# EAGLE library part LM5116 (library newchips)
NS Wide Range Synchronous Buck Controller
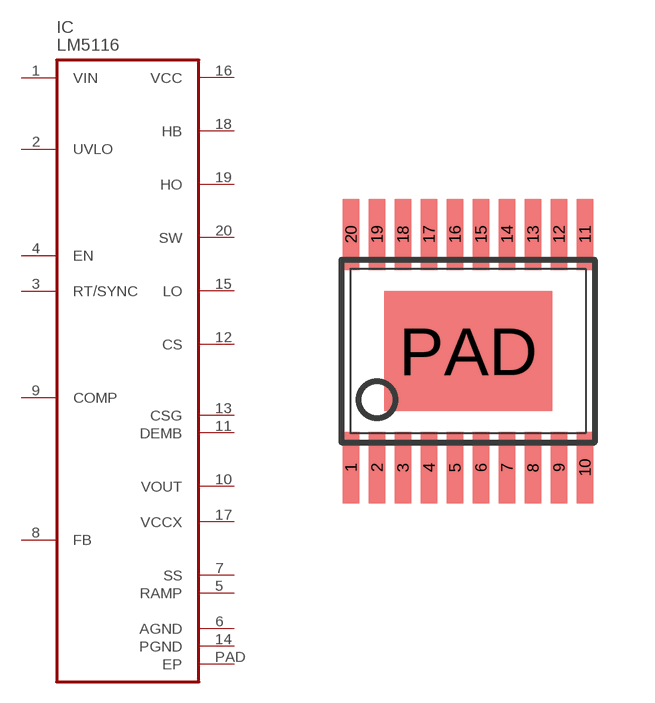
[diagram p19: symbol with the pads of TSSOP20-PAD; footprint TSSOP20-PAD]

Designator prefix IC

## LM5116  [TSSOP20-PAD]
1  VIN  pwr
2  UVLO  pas
3  RT/SYNC  pas
4  EN  in
5  RAMP  pas
6  AGND  pas
7  SS  pas
8  FB  in
9  COMP  out
10  VOUT  in
11  DEMB  in
12  CS  in
13  CSG  in
14  PGND  pwr
15  LO  out
16  VCC  pwr
17  VCCX  pwr
18  HB  pas
19  HO  out
20  SW  pas
PAD  EP  pwr

## Footprint TSSOP20-PAD (pad centres in mm)
smd 0.42 x 1.78: 1 -2.925,-2.918; 2 -2.275,-2.918; 3 -1.625,-2.918; 4 -0.975,-2.918; 5 -0.325,-2.918; 6 0.325,-2.918; 7 0.975,-2.918; 8 1.625,-2.918; 9 2.275,-2.918; 10 2.925,-2.918; 11 2.925,2.918; 12 2.275,2.918; 13 1.625,2.918; 14 0.975,2.918; 15 0.325,2.918; 16 -0.325,2.918; 17 -0.975,2.918; 18 -1.625,2.918; 19 -2.275,2.918; 20 -2.925,2.918
smd 4.2 x 3: PAD 0,0